# Altium footprint library Jump_254.PcbLib: 184 footprints (part 5 of 12)
Each footprint in its own frame and in the unit in brackets; x right, y up, seen from the top. Pads: shape width x height; smd on the part's side, far side on the other; paste and mask are expansions set on the pad; w line width, h text height; cw(c..) or ccw(c..) is an arc to the next point about the centre after c.
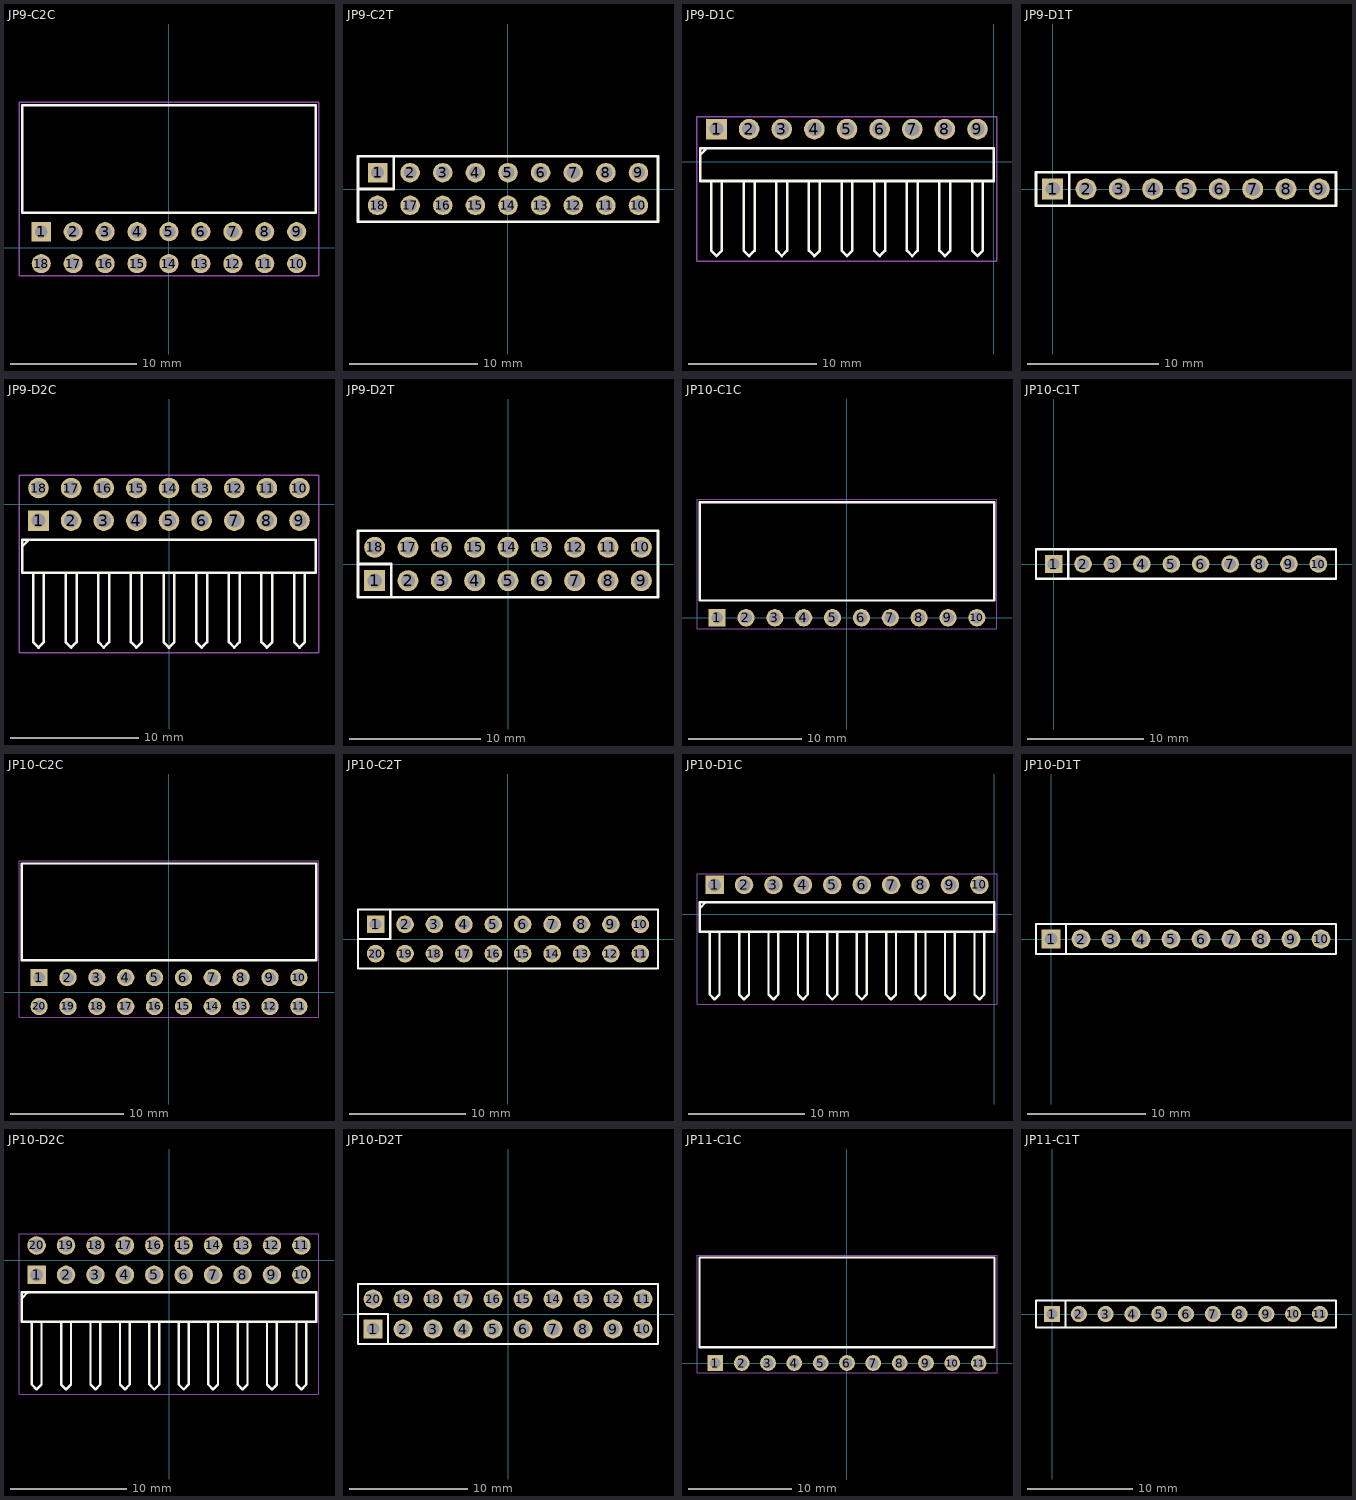
[diagram p4: the footprints below, top view; thin cyan lines are the x and y axes]

## JP9-C2C [mm] "18p 2 rows Right angle"
height 5.08
pads (18):
  rect 1.52x1.52 hole 1.02: 1(-10.16,1.27)
  round 1.52 hole 1.02: 2(-7.62,1.27) 3(-5.08,1.27) 4(-2.54,1.27) 5(0,1.27) 6(2.54,1.27) 7(5.08,1.27) 8(7.62,1.27) 9(10.16,1.27) 10(10.16,-1.27) 11(7.62,-1.27) 12(5.08,-1.27) 13(2.54,-1.27) 14(0,-1.27) 15(-2.54,-1.27) 16(-5.08,-1.27) 17(-7.62,-1.27) 18(-10.16,-1.27)
Top Overlay:
  lines w0.2: -11.68,2.794 -11.68,11.316 11.684,11.316 11.684,2.794 -11.68,2.794
Mechanical 15:
  lines w0.1: -11.93,-2.23 -11.93,11.566 11.934,11.566 11.934,-2.23 -11.93,-2.23
3D body "613018243121.stp": height 5.09, standoff -4.46, extent -11.68,-1.478 11.68,11.362

## JP9-C2T [mm] "18 pins, dual row, straight, gold plating"
height 8.5
pads (18):
  rect 1.52x1.52 hole 1.02: 1(-10.16,1.27)
  round 1.52 hole 1.02: 2(-7.62,1.27) 3(-5.08,1.27) 4(-2.54,1.27) 5(0,1.27) 6(2.54,1.27) 7(5.08,1.27) 8(7.62,1.27) 9(10.16,1.27) 10(10.16,-1.27) 11(7.62,-1.27) 12(5.08,-1.27) 13(2.54,-1.27) 14(0,-1.27) 15(-2.54,-1.27) 16(-5.08,-1.27) 17(-7.62,-1.27) 18(-10.16,-1.27)
Top Overlay:
  lines w0.2: -11.68,0 -8.89,0 -8.89,2.54 ; -11.68,-2.54 11.68,-2.54 11.68,2.54 -11.68,2.54 -11.68,-2.54
3D body "61301821821.stp": height 8.51, standoff -3.09, extent -11.68,-2.54 11.68,2.54

## JP9-D1C [mm] "9 pins, 1 row, right angled, gold plating"
height 2.54
pads (9):
  rect 1.6x1.6 hole 1.1: 1(-21.59,2.54)
  round 1.6 hole 1.1: 2(-19.05,2.54) 3(-16.51,2.54) 4(-13.97,2.54) 5(-11.43,2.54) 6(-8.89,2.54) 7(-6.35,2.54) 8(-3.81,2.54) 9(-1.27,2.54)
Top Overlay:
  lines w0.2: -22.818,0.574 -22.394,0.998 ; -22.013,-1.525 -22.013,-6.919 -21.59,-7.342 -21.167,-6.919 -21.167,-1.5 ; -19.473,-1.525 -19.473,-6.919 -19.05,-7.342 -18.627,-6.919 -18.627,-1.525 ; -16.933,-1.525 -16.933,-6.919 -16.51,-7.342 -16.087,-6.919 -16.087,-1.5 ; -14.393,-1.525 -14.393,-6.919 -13.97,-7.342 -13.547,-6.919 -13.547,-1.525 ; -11.853,-1.525 -11.853,-6.919 -11.43,-7.342 -11.007,-6.919 -11.007,-1.5 ; -9.313,-1.525 -9.313,-6.919 -8.89,-7.342 -8.467,-6.919 -8.467,-1.525 ; -6.773,-1.525 -6.773,-6.919 -6.35,-7.342 -5.927,-6.919 -5.927,-1.5 ; -4.233,-1.525 -4.233,-6.919 -3.81,-7.342 -3.387,-6.919 -3.387,-1.525 ; -1.693,-1.525 -1.693,-6.919 -1.27,-7.342 -0.847,-6.919 -0.847,-1.5 ; -22.86,-1.5 0,-1.5 0,1.04 -22.86,1.04 -22.86,-1.5
Mechanical 15:
  lines w0.1: -23.11,-7.75 -23.11,3.5 0.25,3.5 0.25,-7.75 -23.11,-7.75
3D body "61300911021.stp": height 2.55, standoff -2.99, extent -22.86,-7.524 0,2.836

## JP9-D1T [mm] "9 pins, 1 row, straight, gold plating"
height 8.54
pads (9):
  rect 1.6x1.6 hole 1.1: 1(0,0)
  round 1.6 hole 1.1: 2(2.54,0) 3(5.08,0) 4(7.62,0) 5(10.16,0) 6(12.7,0) 7(15.24,0) 8(17.78,0) 9(20.32,0)
Top Overlay:
  lines w0.2: 1.27,-1.27 1.27,1.27 ; -1.27,-1.27 -1.27,1.27 21.59,1.27 21.59,-1.27 -1.27,-1.27
3D body "61300911121.stp": height 8.54, standoff -3, extent -1.27,-1.27 21.59,1.27

## JP9-D2C [mm] "18 pins, dual row, right angled, gold plating"
height 5.08
pads (18):
  rect 1.6x1.6 hole 1.1: 1(-10.16,-1.27)
  round 1.6 hole 1.1: 2(-7.62,-1.27) 3(-5.08,-1.27) 4(-2.54,-1.27) 5(0,-1.27) 6(2.54,-1.27) 7(5.08,-1.27) 8(7.62,-1.27) 9(10.16,-1.27) 10(10.16,1.27) 11(7.62,1.27) 12(5.08,1.27) 13(2.54,1.27) 14(0,1.27) 15(-2.54,1.27) 16(-5.08,1.27) 17(-7.62,1.27) 18(-10.16,1.27)
Top Overlay:
  lines w0.2: -11.388,-3.236 -10.964,-2.812 ; -10.583,-5.335 -10.583,-10.729 -10.16,-11.152 -9.737,-10.729 -9.737,-5.31 ; -8.043,-5.335 -8.043,-10.729 -7.62,-11.152 -7.197,-10.729 -7.197,-5.335 ; -5.503,-5.335 -5.503,-10.729 -5.08,-11.152 -4.657,-10.729 -4.657,-5.31 ; -2.963,-5.335 -2.963,-10.729 -2.54,-11.152 -2.117,-10.729 -2.117,-5.335 ; -0.423,-5.335 -0.423,-10.729 0,-11.152 0.423,-10.729 0.423,-5.31 ; 2.117,-5.335 2.117,-10.729 2.54,-11.152 2.963,-10.729 2.963,-5.335 ; 4.657,-5.335 4.657,-10.729 5.08,-11.152 5.503,-10.729 5.503,-5.31 ; 7.197,-5.335 7.197,-10.729 7.62,-11.152 8.043,-10.729 8.043,-5.335 ; 9.737,-5.335 9.737,-10.729 10.16,-11.152 10.583,-10.729 10.583,-5.31 ; -11.43,-5.31 -11.43,-2.77 11.43,-2.77 11.43,-5.31 -11.43,-5.31
Mechanical 15:
  lines w0.1: -11.68,-11.56 -11.68,2.27 11.68,2.27 11.68,-11.56 -11.68,-11.56
3D body "61301821021.stp": height 5.09, standoff -2.99, extent -11.43,-11.31 11.43,1.59

## JP9-D2T [mm] "18 pins, dual pin, straight, gold plating"
height 8.54
pads (18):
  rect 1.6x1.6 hole 1.1: 1(-10.16,-1.27)
  round 1.6 hole 1.1: 2(-7.62,-1.27) 3(-5.08,-1.27) 4(-2.54,-1.27) 5(0,-1.27) 6(2.54,-1.27) 7(5.08,-1.27) 8(7.62,-1.27) 9(10.16,-1.27) 10(10.16,1.27) 11(7.62,1.27) 12(5.08,1.27) 13(2.54,1.27) 14(0,1.27) 15(-2.54,1.27) 16(-5.08,1.27) 17(-7.62,1.27) 18(-10.16,1.27)
Top Overlay:
  lines w0.2: -11.43,0 -8.89,0 -8.89,-2.54 ; -11.43,-2.54 -11.43,2.54 11.43,2.54 11.43,-2.54 -11.43,-2.54
3D body "61301821121.stp": height 8.55, standoff -2.99, extent -11.43,-2.54 11.43,2.54

## JP10-C1C [mm] "10p 1 row Right angle"
height 2.5
pads (10):
  rect 1.52x1.52 hole 1.02: 1(-11.43,0)
  round 1.52 hole 1.02: 2(-8.89,0) 3(-6.35,0) 4(-3.81,0) 5(-1.27,0) 6(1.27,0) 7(3.81,0) 8(6.35,0) 9(8.89,0) 10(11.43,0)
Top Overlay:
  lines w0.2: -12.954,1.524 12.954,1.524 12.954,10.173 -12.954,10.173 -12.954,1.524
Mechanical 15:
  lines w0.1: -13.2,-0.96 13.204,-0.96 13.204,10.423 -13.2,10.423 -13.2,-0.96
3D body "613010143121.stp": height 2.51, standoff -3.08, extent -12.95,-0.208 12.95,10.092

## JP10-C1T [mm] "10 row, straight, gold plating"
height 8.5
pads (10):
  rect 1.52x1.52 hole 1.02: 1(0,0)
  round 1.52 hole 1.02: 2(2.54,0) 3(5.08,0) 4(7.62,0) 5(10.16,0) 6(12.7,0) 7(15.24,0) 8(17.78,0) 9(20.32,0) 10(22.86,0)
Top Overlay:
  lines w0.2: 1.27,-1.27 1.27,1.27 ; -1.52,-1.27 24.38,-1.27 24.38,1.27 0.635,1.27 -1.52,1.27 -1.52,-1.27
3D body "61301011821.stp": height 8.51, standoff -3.09, extent -1.52,-1.25 24.38,1.25

## JP10-C2C [mm] "20p 2 rows Right angle"
height 5.08
pads (20):
  rect 1.52x1.52 hole 1.02: 1(-11.43,1.27)
  round 1.52 hole 1.02: 2(-8.89,1.27) 3(-6.35,1.27) 4(-3.81,1.27) 5(-1.27,1.27) 6(1.27,1.27) 7(3.81,1.27) 8(6.35,1.27) 9(8.89,1.27) 10(11.43,1.27) 11(11.43,-1.27) 12(8.89,-1.27) 13(6.35,-1.27) 14(3.81,-1.27) 15(1.27,-1.27) 16(-1.27,-1.27) 17(-3.81,-1.27) 18(-6.35,-1.27) 19(-8.89,-1.27) 20(-11.43,-1.27)
Top Overlay:
  lines w0.2: -12.954,2.794 12.954,2.794 12.954,11.316 -12.954,11.316 -12.954,2.794
Mechanical 15:
  lines w0.1: -13.2,-2.23 13.204,-2.23 13.204,11.566 -13.2,11.566 -13.2,-2.23
3D body "613020243121.stp": height 5.09, standoff -4.46, extent -12.95,-1.478 12.95,11.362

## JP10-C2T [mm] "20 pins, dual row, straight, gold plating"
height 8.5
pads (20):
  rect 1.52x1.52 hole 1.02: 1(-11.43,1.27)
  round 1.52 hole 1.02: 2(-8.89,1.27) 3(-6.35,1.27) 4(-3.81,1.27) 5(-1.27,1.27) 6(1.27,1.27) 7(3.81,1.27) 8(6.35,1.27) 9(8.89,1.27) 10(11.43,1.27) 11(11.43,-1.27) 12(8.89,-1.27) 13(6.35,-1.27) 14(3.81,-1.27) 15(1.27,-1.27) 16(-1.27,-1.27) 17(-3.81,-1.27) 18(-6.35,-1.27) 19(-8.89,-1.27) 20(-11.43,-1.27)
Top Overlay:
  lines w0.2: -12.95,0 -10.16,0 -10.16,2.54 ; -12.95,-2.54 -12.95,2.54 12.95,2.54 12.95,-2.54 -12.95,-2.54
3D body "61302021821.stp": height 8.51, standoff -3.09, extent -12.95,-2.54 12.95,2.54

## JP10-D1C [mm] "10 pins, 1 row, right angled, gold plating"
height 2.54
pads (10):
  rect 1.6x1.6 hole 1.1: 1(-24.13,2.54)
  round 1.6 hole 1.1: 2(-21.59,2.54) 3(-19.05,2.54) 4(-16.51,2.54) 5(-13.97,2.54) 6(-11.43,2.54) 7(-8.89,2.54) 8(-6.35,2.54) 9(-3.81,2.54) 10(-1.27,2.54)
Top Overlay:
  lines w0.2: -25.358,0.574 -24.934,0.998 ; -24.553,-1.525 -24.553,-6.919 -24.13,-7.342 -23.707,-6.919 -23.707,-1.5 ; -22.013,-1.525 -22.013,-6.919 -21.59,-7.342 -21.167,-6.919 -21.167,-1.525 ; -19.473,-1.525 -19.473,-6.919 -19.05,-7.342 -18.627,-6.919 -18.627,-1.5 ; -16.933,-1.525 -16.933,-6.919 -16.51,-7.342 -16.087,-6.919 -16.087,-1.525 ; -14.393,-1.525 -14.393,-6.919 -13.97,-7.342 -13.547,-6.919 -13.547,-1.5 ; -11.853,-1.525 -11.853,-6.919 -11.43,-7.342 -11.007,-6.919 -11.007,-1.525 ; -9.313,-1.525 -9.313,-6.919 -8.89,-7.342 -8.467,-6.919 -8.467,-1.5 ; -6.773,-1.525 -6.773,-6.919 -6.35,-7.342 -5.927,-6.919 -5.927,-1.525 ; -4.233,-1.525 -4.233,-6.919 -3.81,-7.342 -3.387,-6.919 -3.387,-1.5 ; -1.693,-1.525 -1.693,-6.919 -1.27,-7.342 -0.847,-6.919 -0.847,-1.525 ; -25.4,-1.5 0,-1.5 0,1.04 -25.4,1.04 -25.4,-1.5
Mechanical 15:
  lines w0.1: -25.65,-7.75 0.25,-7.75 0.25,3.5 -25.65,3.5 -25.65,-7.75
3D body "61301011021.stp": height 2.55, standoff -2.99, extent -25.4,-7.524 0,2.836

## JP10-D1T [mm] "10 pins, 1 row, straight, gold plating"
height 8.54
pads (10):
  rect 1.6x1.6 hole 1.1: 1(0,0)
  round 1.6 hole 1.1: 2(2.54,0) 3(5.08,0) 4(7.62,0) 5(10.16,0) 6(12.7,0) 7(15.24,0) 8(17.78,0) 9(20.32,0) 10(22.86,0)
Top Overlay:
  lines w0.2: 1.27,-1.27 1.27,1.27 ; -1.27,-1.27 24.13,-1.27 24.13,1.27 0.635,1.27 -1.27,1.27 -1.27,-1.27
3D body "61301011121.stp": height 8.54, standoff -3, extent -1.27,-1.27 24.13,1.27

## JP10-D2C [mm] "20 pins, dual row, right angled, gold plating"
height 5.08
pads (20):
  rect 1.6x1.6 hole 1.1: 1(-11.43,-1.27)
  round 1.6 hole 1.1: 2(-8.89,-1.27) 3(-6.35,-1.27) 4(-3.81,-1.27) 5(-1.27,-1.27) 6(1.27,-1.27) 7(3.81,-1.27) 8(6.35,-1.27) 9(8.89,-1.27) 10(11.43,-1.27) 11(11.43,1.27) 12(8.89,1.27) 13(6.35,1.27) 14(3.81,1.27) 15(1.27,1.27) 16(-1.27,1.27) 17(-3.81,1.27) 18(-6.35,1.27) 19(-8.89,1.27) 20(-11.43,1.27)
Top Overlay:
  lines w0.2: -12.658,-3.236 -12.234,-2.812 ; -11.853,-5.335 -11.853,-10.729 -11.43,-11.152 -11.007,-10.729 -11.007,-5.31 ; -9.313,-5.335 -9.313,-10.729 -8.89,-11.152 -8.467,-10.729 -8.467,-5.335 ; -6.773,-5.335 -6.773,-10.729 -6.35,-11.152 -5.927,-10.729 -5.927,-5.31 ; -4.233,-5.335 -4.233,-10.729 -3.81,-11.152 -3.387,-10.729 -3.387,-5.335 ; -1.693,-5.335 -1.693,-10.729 -1.27,-11.152 -0.847,-10.729 -0.847,-5.31 ; 0.847,-5.335 0.847,-10.729 1.27,-11.152 1.693,-10.729 1.693,-5.335 ; 3.387,-5.335 3.387,-10.729 3.81,-11.152 4.233,-10.729 4.233,-5.31 ; 5.927,-5.335 5.927,-10.729 6.35,-11.152 6.773,-10.729 6.773,-5.335 ; 8.467,-5.335 8.467,-10.729 8.89,-11.152 9.313,-10.729 9.313,-5.31 ; 11.007,-5.335 11.007,-10.729 11.43,-11.152 11.853,-10.729 11.853,-5.335 ; -12.7,-5.31 -12.7,-2.77 12.7,-2.77 12.7,-5.31 -12.7,-5.31
Mechanical 15:
  lines w0.1: -12.95,-11.56 -12.95,2.27 12.95,2.27 12.95,-11.56 -12.95,-11.56
3D body "61302021021.stp": height 5.09, standoff -2.99, extent -12.7,-11.334 12.7,1.566

## JP10-D2T [mm] "20 pins, dual pin, straight, gold plating"
height 8.54
pads (20):
  rect 1.6x1.6 hole 1.1: 1(-11.43,-1.27)
  round 1.6 hole 1.1: 2(-8.89,-1.27) 3(-6.35,-1.27) 4(-3.81,-1.27) 5(-1.27,-1.27) 6(1.27,-1.27) 7(3.81,-1.27) 8(6.35,-1.27) 9(8.89,-1.27) 10(11.43,-1.27) 11(11.43,1.27) 12(8.89,1.27) 13(6.35,1.27) 14(3.81,1.27) 15(1.27,1.27) 16(-1.27,1.27) 17(-3.81,1.27) 18(-6.35,1.27) 19(-8.89,1.27) 20(-11.43,1.27)
Top Overlay:
  lines w0.2: -12.7,0 -10.16,0 -10.16,-2.54 ; -12.7,-2.54 12.7,-2.54 12.7,2.54 -12.7,2.54 -12.7,-2.54
3D body "61302021121.stp": height 8.55, standoff -2.99, extent -12.7,-2.54 12.7,2.54

## JP11-C1C [mm] "11p 1 row Right angle"
height 2.5
pads (11):
  rect 1.52x1.52 hole 1.02: 1(-12.7,0)
  round 1.52 hole 1.02: 2(-10.16,0) 3(-7.62,0) 4(-5.08,0) 5(-2.54,0) 6(0,0) 7(2.54,0) 8(5.08,0) 9(7.62,0) 10(10.16,0) 11(12.7,0)
Top Overlay:
  lines w0.2: -14.224,1.524 14.224,1.524 14.224,10.173 -14.224,10.173 -14.224,1.524
Mechanical 15:
  lines w0.1: -14.47,-0.96 -14.47,10.423 14.474,10.423 14.474,-0.96 -14.47,-0.96
3D body "613011143121.stp": height 2.51, standoff -3.08, extent -14.22,-0.208 14.22,10.092

## JP11-C1T [mm] "11 row, straight, gold plating"
height 8.5
pads (11):
  rect 1.52x1.52 hole 1.02: 1(0,0)
  round 1.52 hole 1.02: 2(2.54,0) 3(5.08,0) 4(7.62,0) 5(10.16,0) 6(12.7,0) 7(15.24,0) 8(17.78,0) 9(20.32,0) 10(22.86,0) 11(25.4,0)
Top Overlay:
  lines w0.2: 1.27,-1.27 1.27,1.27 ; -1.52,-1.27 26.92,-1.27 26.92,1.27 0.635,1.27 -1.52,1.27 -1.52,-1.27
3D body "61301111821.stp": height 8.51, standoff -3.09, extent -1.52,-1.27 26.92,1.23